# Altium footprint library 3PINHEADER (1).PcbLib: 1 footprints
Each footprint in its own frame and in the unit in brackets; x right, y up, seen from the top. Pads: shape width x height; smd on the part's side, far side on the other; paste and mask are expansions set on the pad; w line width, h text height; cw(c..) or ccw(c..) is an arc to the next point about the centre after c.
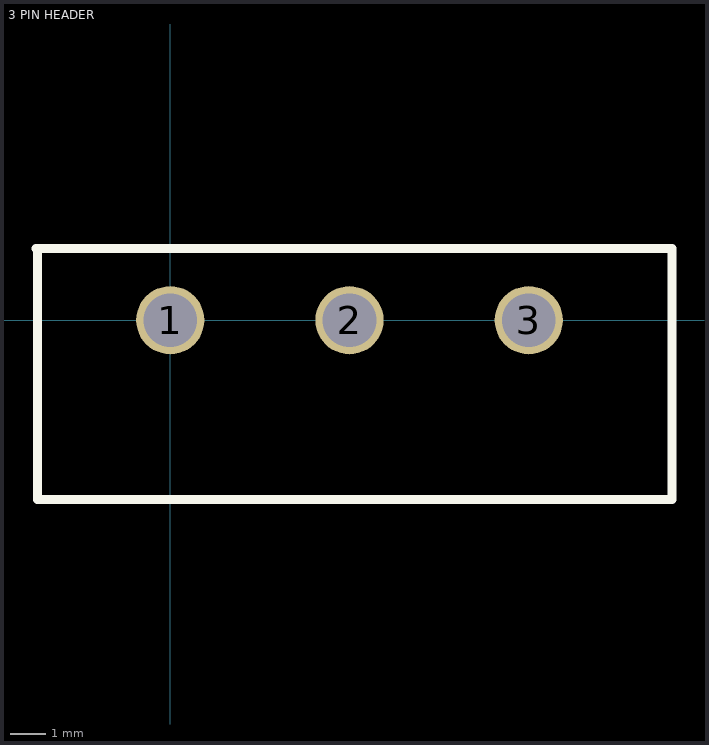
[diagram p0: the footprint, top view; thin cyan lines are the x and y axes]

## 3 PIN HEADER [mm] "3 PIN HEADER"
pads (3):
  round 1.9 hole 1.5: 1(0,0) 2(5,0) 3(10,0)
Top Overlay:
  lines w0.254: -3.75,2 0.675,2 9.525,2 13.95,2 ; -3.7,2 -3.7,-5 13.8,-5 ; 13.7,-5 13.8,-5 ; 14,2 14,-5 13.8,-5